# Altium footprint library UniversalConverter_Footprints.PcbLib: 20 footprints (part 1 of 2)
Each footprint in its own frame and in the unit in brackets; x right, y up, seen from the top. Pads: shape width x height; smd on the part's side, far side on the other; paste and mask are expansions set on the pad; w line width, h text height; cw(c..) or ccw(c..) is an arc to the next point about the centre after c.
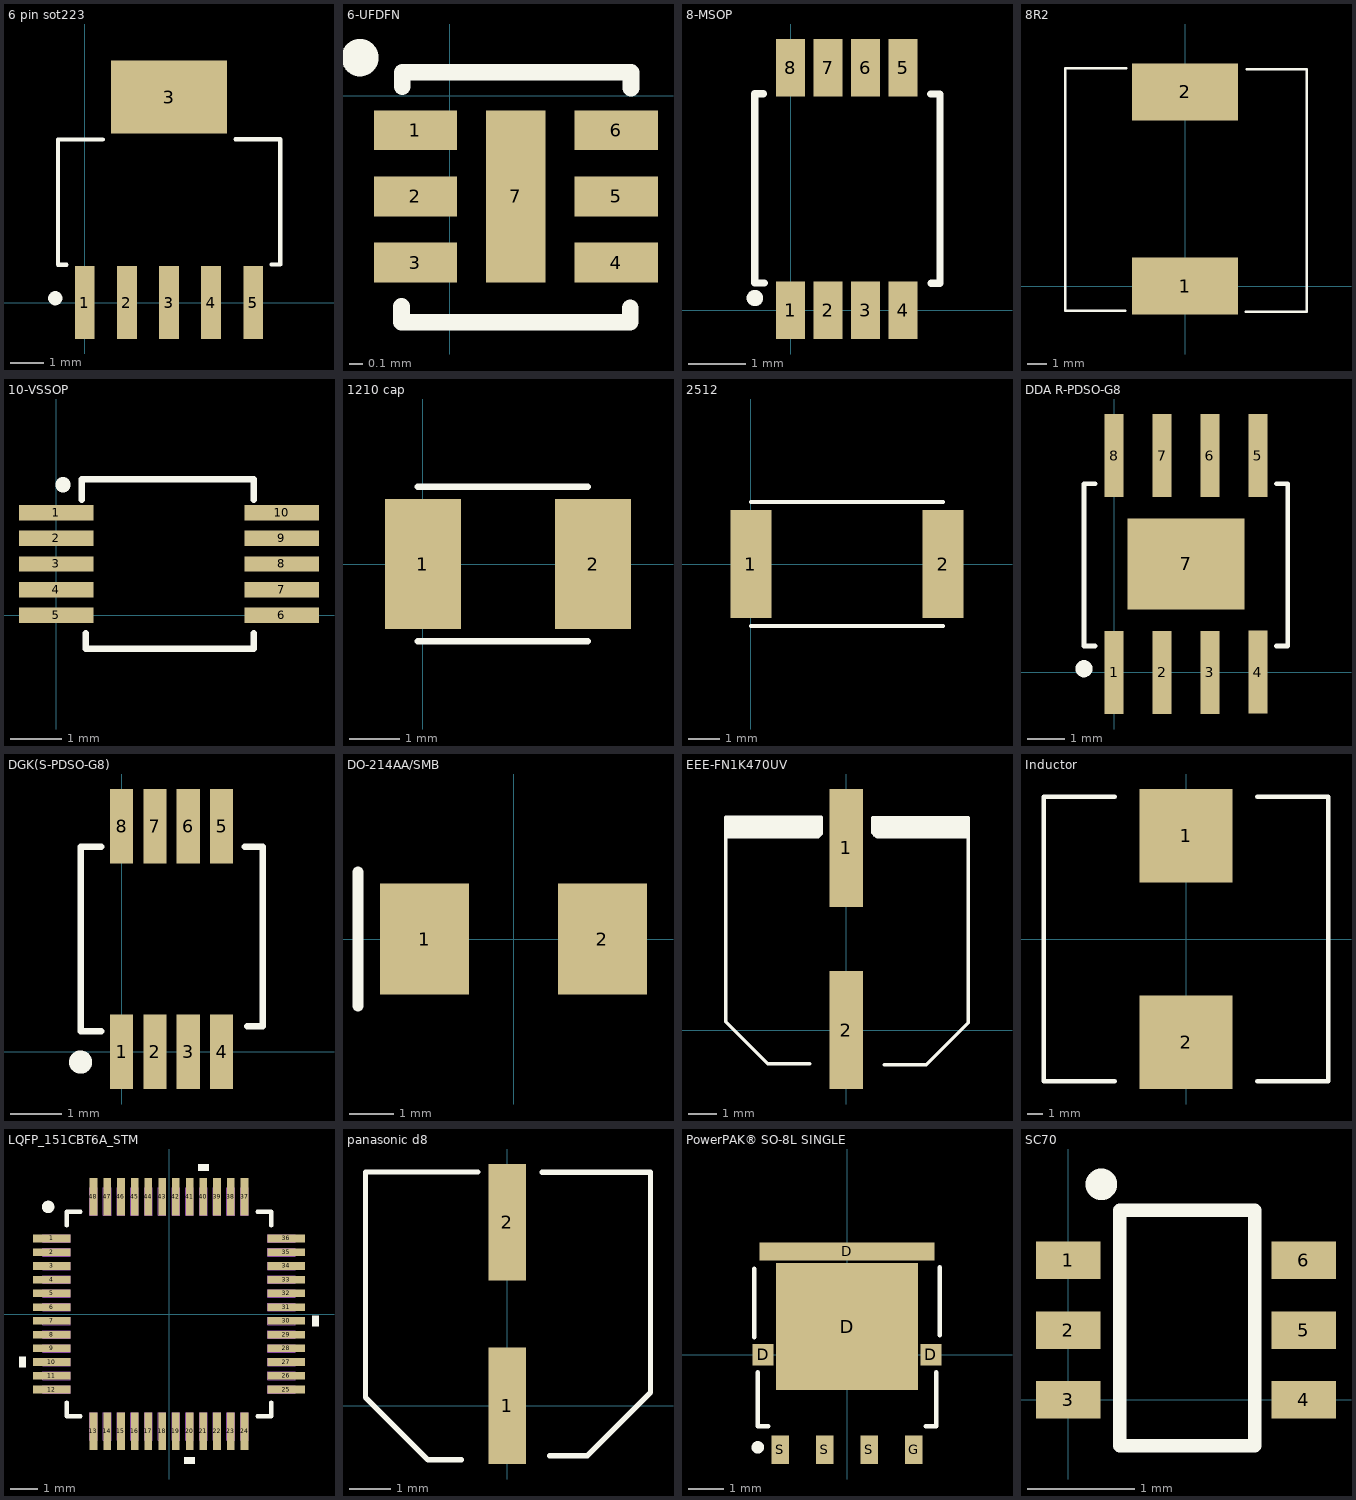
[diagram p0: the footprints below, top view; thin cyan lines are the x and y axes]

## 6 pin sot223 [mm]
pads (6):
  rect 0.6x2.2 smd: 1(0,0) 2(1.27,0) 3(2.54,0) 4(3.81,0) 5(5.08,0)
  rect 3.5x2.2 smd: 3(2.54,6.2)
Top Overlay:
  circle w0.254: c-0.89,0.13 r0.086
  lines w0.127: -0.55,1.14 -0.81,1.14 -0.81,4.92 0.54,4.92 ; 4.546,4.924 5.896,4.924 5.896,1.144 5.636,1.144
3D body "User Library-SOT223-6.STEP": height 2.05, standoff -0.02, extent -0.74,-0.61 5.81,6.65

## 6-UFDFN [mm]
pads (7):
  rect 0.63x0.3 smd: 1(-0.26,-0.26) 2(-0.26,-0.76) 3(-0.26,-1.26) 4(1.26,-1.26) 5(1.26,-0.76) 6(1.26,-0.26)
  rect 0.45x1.3 smd: 7(0.5,-0.76)
Top Overlay:
  circle w0.254: c-0.68,0.29 r0.014
  lines w0.127: -0.365,-1.712 1.365,-1.712 1.365,-1.602 ; -0.365,-1.702 -0.365,-1.592 ; -0.36,0.07 -0.36,0.18 1.37,0.18 ; 1.37,0.06 1.37,0.17
3D body "User Library-SLP1616P6.step": height 0.55, standoff -0.03, extent -0.3,-1.56 1.3,0.04

## 8-MSOP [mm]
pads (8):
  rect 0.5x1 smd: 1(0,0) 2(0.65,0) 3(1.3,0) 4(1.95,0) 5(1.95,4.2) 6(1.3,4.2) 7(0.65,4.2) 8(0,4.2)
Top Overlay:
  circle w0.254: c-0.62,0.21 r0.014
  lines w0.127: -0.47,3.75 -0.62,3.75 -0.62,0.47 -0.46,0.47 ; 2.428,3.747 2.588,3.747 2.588,0.467 2.438,0.467
3D body "User Library-MSOP8.step": height 1.1, standoff 0, extent -0.57,-0.369 2.53,4.569

## 8R2 [mm]
pads (2):
  rect 5.4x2.9 smd: 1(0,0) 2(0,9.9)
Top Overlay:
  lines w0.127: -3.05,-1.25 -6.1,-1.25 -6.1,11.1 -3,11.1 ; 3.1,-1.3 6.2,-1.3 6.2,11.05 3.15,11.05
3D body "Download_WE-PD_1260_STP (rev1).stp": height 5.71, standoff 0.05, extent -6,-1.1 6,10.9

## 10-VSSOP [mm]
pads (10):
  rect 1.45x0.3 smd: 1(0,2) 2(0,1.5) 3(0,1) 4(0,0.5) 5(0,0) 6(4.4,0) 7(4.4,0.5) 8(4.4,1) 9(4.4,1.5) 10(4.4,2)
Top Overlay:
  circle w0.254: c0.134,2.546 r0.021
  lines w0.127: 0.5,2.25 0.5,2.65 3.85,2.65 3.85,2.25 ; 0.576,-0.35 0.576,-0.65 3.85,-0.65 3.85,-0.35
3D body "User Library-DGS0010A.STEP": height 1.1, standoff 0, extent -0.262,-0.5 4.663,2.5

## 1210 cap [mm]
pads (2):
  rect 1.52x2.6 smd: 1(0,0) 2(3.41,0)
Top Overlay:
  lines w0.127: -0.1,-1.55 3.3,-1.55 ; -0.1,1.55 3.3,1.55
3D body "User Library-1210(3225M) Cap.step": height 1.7, standoff 0, extent -0.35,-1.239 3.65,1.25

## 2512 [mm]
pads (2):
  rect 1.3x3.4 smd: 1(0,0) 2(6.05,0)
Top Overlay:
  lines w0.127: 0,-1.95 6.05,-1.95 ; 0,1.95 6.05,1.95
3D body "User Library-2512 SMD Resistor (1).step": height 1.6, standoff 0, extent -0.175,-1.55 6.175,1.45

## DDA R-PDSO-G8 [mm]
pads (9):
  rect 0.5x2.2 smd: 1(0,0) 2(1.27,0) 3(2.54,0) 4(3.81,0.008) 5(3.81,5.75) 6(2.54,5.75) 7(1.27,5.75) 8(0,5.75)
  rect 3.1x2.4 smd: 7(1.905,2.875)
Top Overlay:
  circle w0.254: c-0.8,0.1 r0.1
  lines w0.127: -0.5,0.7 -0.8,0.7 -0.8,5 -0.5,5 ; 4.3,0.7 4.6,0.7 4.6,5 4.3,5
3D body "User Library-TPS54360DDA.step": height 1.53, standoff -0.06, extent -0.6,-0.2 4.4,6

## DGK(S-PDSO-G8) [mm]
pads (8):
  rect 0.45x1.45 smd: 1(0,0) 2(0.65,0) 3(1.3,0) 4(1.95,0) 5(1.95,4.4) 6(1.3,4.4) 7(0.65,4.4) 8(0,4.4)
Top Overlay:
  circle w0.254: c-0.8,-0.2 r0.1
  lines w0.127: -0.4,0.4 -0.8,0.4 -0.8,4 -0.4,4 ; 2.4,4 2.75,4 2.75,0.5 2.45,0.5
3D body "User Library-DGK(S-PDSO-G8).step": height 1.1, standoff 0, extent -0.57,-0.326 2.53,4.755

## DO-214AA/SMB [mm]
pads (2):
  rect 2x2.5 smd: 1(-2,0) 2(2,0)
Top Overlay:
  lines w0.254: -3.5,-1.5 -3.5,1.5
3D body "User Library-DIOM5539X24.step": height 2.45, standoff 0.03, extent -2.75,-1.95 2.75,1.95

## EEE-FN1K470UV [mm]
pads (2):
  rect 1.2x4.2 smd: 1(0,6.5) 2(0,0)
Top Overlay:
  rectangle: -4.3,6.9 -1.1,7.6
  rectangle: -1.3,6.9 -0.9,7.6
  rectangle: 0.956,6.9 4.3,7.565
  lines w0.127: -4.3,6.9 -1,6.9 -0.9,7 -0.9,7.6 -4.3,7.6 -4.3,0.3 -2.8,-1.2 -2.6,-1.2 -1.3,-1.2 ; 1.356,-1.235 2.656,-1.235 2.856,-1.235 4.356,0.265 4.356,7.565 0.956,7.565 0.956,7.044 1.1,6.9 4.3,6.9
3D body "â¦8 SIZE CODE F-V.stp": height 10.5, standoff 0, extent -4.2,-1.65 4.1,8.05

## Inductor [mm]
pads (2):
  rect 6x6 smd: 1(0,6.65) 2(0,-6.65)
Top Overlay:
  lines w0.3: -4.575,-9.15 -9.15,-9.15 -9.15,9.15 -4.575,9.15 ; 4.575,-9.15 9.15,-9.15 9.15,9.15 4.575,9.15
3D body "WE-HCI_1890_7443556 (rev1).stp": height 8.95, standoff 0.05, extent -9.1,-9.15 9.1,9.15

## LQFP_151CBT6A_STM [mil]
pads (48):
  rect 53.5x11 smd paste+0: 1(-168.25,108.3) 2(-168.25,88.61) 3(-168.25,68.92) 4(-168.25,49.23) 5(-168.25,29.54) 6(-168.25,9.85) 7(-168.25,-9.85) 8(-168.25,-29.54) 9(-168.25,-49.23) 10(-168.25,-68.92) 11(-168.25,-88.61) 12(-168.25,-108.3) 25(168.25,-108.3) 26(168.25,-88.61) 27(168.25,-68.92) 28(168.25,-49.23) 29(168.25,-29.54) 30(168.25,-9.85) 31(168.25,9.85) 32(168.25,29.54) 33(168.25,49.23) 34(168.25,68.92) 35(168.25,88.61) 36(168.25,108.3)
  rect 11x53.5 smd paste+0: 13(-108.3,-168.25) 14(-88.61,-168.25) 15(-68.92,-168.25) 16(-49.23,-168.25) 17(-29.54,-168.25) 18(-9.85,-168.25) 19(9.85,-168.25) 20(29.54,-168.25) 21(49.23,-168.25) 22(68.92,-168.25) 23(88.61,-168.25) 24(108.3,-168.25) 37(108.3,168.25) 38(88.61,168.25) 39(68.92,168.25) 40(49.23,168.25) 41(29.54,168.25) 42(9.85,168.25) 43(-9.85,168.25) 44(-29.54,168.25) 45(-49.23,168.25) 46(-68.92,168.25) 47(-88.61,168.25) 48(-108.3,168.25)
Top Overlay:
  circle w10: c-173.23,153.54 r3.94
  region: 37.03,-205 22.04,-205 22.04,-215 37.03,-215
  region: 56.73,205 41.73,205 41.73,215 56.73,215
  region: 205,-2.35 215,-2.35 215,-17.34 205,-17.34
  region: -205,-61.41 -215,-61.41 -215,-76.42 -205,-76.42
  lines w6: -146.5,-126.89 -146.5,-146.5 -126.89,-146.5 ; -146.5,126.89 -146.5,146.5 -126.89,146.5 ; 126.89,-146.5 146.5,-146.5 146.5,-126.89 ; 126.89,146.5 146.5,146.5 146.5,126.89
Mechanical 13:
  drawing of 192 lines, arcs and shapes, not listed
3D body "LQFP_151CBT6A_STM.step": height 63.11, standoff 0, extent -180.98,-180.98 180.98,180.98

## panasonic d8 [mm]
pads (2):
  rect 0.9x2.8 smd: 1(0,0) 2(0,4.4)
Top Overlay:
  lines w0.127: -1.1,-1.3 -1.9,-1.3 -3.4,0.2 -3.4,5.61 -0.7,5.61 ; 0.842,5.602 3.44,5.602 3.44,0.314 1.926,-1.2 1.018,-1.2
3D body "User Library-capacitor size D8.step": height 7.76, standoff 0.04, extent -3.3,-1.3 3.3,5.7

## PowerPAK® SO-8L SINGLE [mm]
pads (8):
  rect 0.595x0.61 smd: D(-2.4,0) D(2.4,0)
  rect 4.061x3.63 smd: D(0,0.801)
  rect 5x0.51 smd: D(0,2.95)
  rect 0.5x0.82 smd: G(1.905,-2.715) S(-1.905,-2.715) S(-0.635,-2.715) S(0.635,-2.715)
Top Overlay:
  circle w0.254: c-2.55,-2.65 r0.05
  lines w0.127: -2.65,0.5 -2.65,2.45 ; -2.55,-0.5 -2.55,-2.05 -2.25,-2.05 ; 2.25,-2.05 2.55,-2.05 2.55,-0.5 ; 2.65,0.55 2.65,2.5
3D body "User Library-PowerPAK_SO-8L_SINGLE.STEP": height 1.07, standoff 0, extent -2.56,-3 2.56,3.15

## SC70 [mm]
pads (6):
  rect 0.6x0.35 smd: 1(0,1.3) 2(0,0.65) 3(0,0) 4(2.2,0) 5(2.2,0.65) 6(2.2,1.3)
Top Overlay:
  circle w0.254: c0.31,2.01 r0.02
  lines w0.127: 0.48,-0.43 1.74,-0.43 1.74,1.77 0.48,1.77 0.48,-0.43
3D body "User Library-sot363.step": height 1, standoff 0, extent -0.07,-0.39 2.23,1.71